# EAGLE library part XPORT (library Zoli2_2015-02-22)
LAN <-> RS232
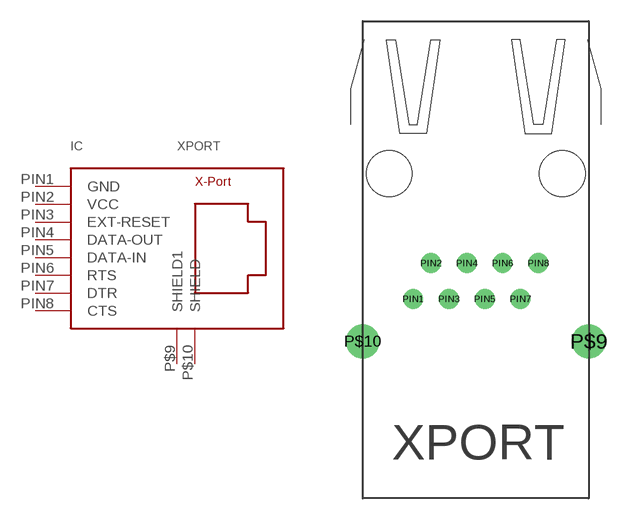
[diagram p16: symbol with the pads of XPORT; footprint XPORT]

Designator prefix IC

## XPORT  [XPORT]
P$9  SHIELD1
P$10  SHIELD
PIN1  GND
PIN2  VCC
PIN3  EXT-RESET
PIN4  DATA-OUT
PIN5  DATA-IN
PIN6  RTS
PIN7  DTR
PIN8  CTS

## Footprint XPORT (pad centres in mm)
drill 1.6 round: P$9 7.39,-4.28; P$10 -8.66,-4.28
drill 0.9 round: PIN1 -5.08,-1.27; PIN2 -3.81,1.27; PIN3 -2.54,-1.27; PIN4 -1.27,1.27; PIN5 0,-1.27; PIN6 1.27,1.27; PIN7 2.54,-1.27; PIN8 3.81,1.27
hole 3.25 at -6.785,7.62
hole 3.25 at 5.515,7.62